# Altium footprint library HSEC8-130-01-XX-DV-A-BL.PcbLib: 1 footprints
Each footprint in its own frame and in the unit in brackets; x right, y up, seen from the top. Pads: shape width x height; smd on the part's side, far side on the other; paste and mask are expansions set on the pad; w line width, h text height; cw(c..) or ccw(c..) is an arc to the next point about the centre after c.
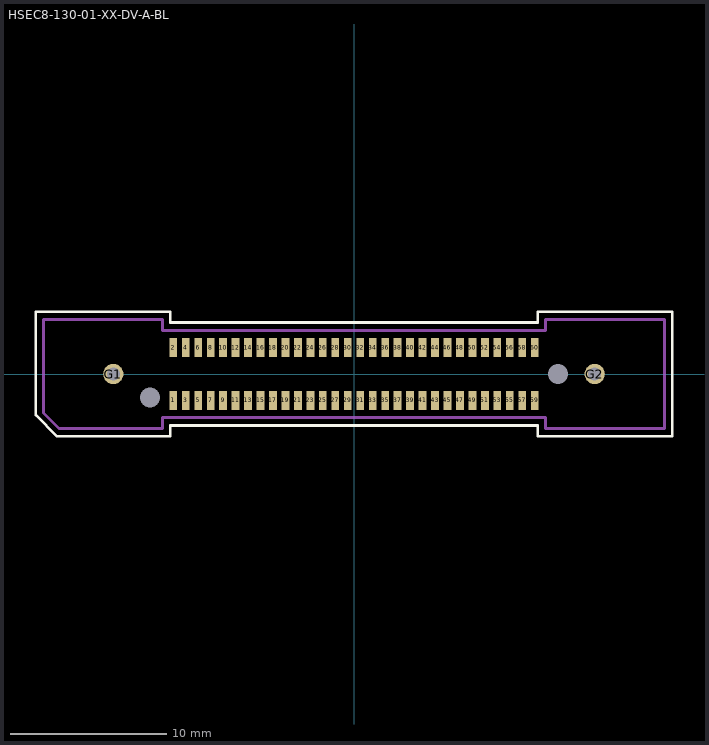
[diagram p0: the footprint, top view; thin cyan lines are the x and y axes]

## HSEC8-130-01-XX-DV-A-BL [mm]
pads (64):
  rect 0.5x1.2 smd mask+0.05: 1(-11.6,-1.7) 2(-11.6,1.7) 3(-10.8,-1.7) 4(-10.8,1.7) 5(-10,-1.7) 6(-10,1.7) 7(-9.2,-1.7) 8(-9.2,1.7) 9(-8.4,-1.7) 10(-8.4,1.7) 11(-7.6,-1.7) 12(-7.6,1.7) 13(-6.8,-1.7) 14(-6.8,1.7) 15(-6,-1.7) 16(-6,1.7) 17(-5.2,-1.7) 18(-5.2,1.7) 19(-4.4,-1.7) 20(-4.4,1.7) 21(-3.6,-1.7) 22(-3.6,1.7) 23(-2.8,-1.7) 24(-2.8,1.7) 25(-2,-1.7) 26(-2,1.7) 27(-1.2,-1.7) 28(-1.2,1.7) 29(-0.4,-1.7) 30(-0.4,1.7) 31(0.4,-1.7) 32(0.4,1.7) 33(1.2,-1.7) 34(1.2,1.7) 35(2,-1.7) 36(2,1.7) 37(2.8,-1.7) 38(2.8,1.7) 39(3.6,-1.7) 40(3.6,1.7) 41(4.4,-1.7) 42(4.4,1.7) 43(5.2,-1.7) 44(5.2,1.7) 45(6,-1.7) 46(6,1.7) 47(6.8,-1.7) 48(6.8,1.7) 49(7.6,-1.7) 50(7.6,1.7) 51(8.4,-1.7) 52(8.4,1.7) 53(9.2,-1.7) 54(9.2,1.7) 55(10,-1.7) 56(10,1.7) 57(10.8,-1.7) 58(10.8,1.7) 59(11.6,-1.7) 60(11.6,1.7)
  round 1.3 hole 0.84 mask+0.075: G1(-15.45,0) G2(15.45,0)
  round 0 hole 1.27 unplated: MH1(-13.1,-1.5) MH2(13.1,0)
Top Overlay:
  lines w0.178: -20.425,-2.631 -20.425,4 -11.8,4 -11.8,3.3 11.8,3.3 11.8,4 20.425,4 20.425,-4 11.8,-4 11.8,-3.3 -11.8,-3.3 -11.8,-4 -19.056,-4 -20.425,-2.631
Top Paste:
  region: 16.731,0 16.687,0.332 16.559,0.64 16.356,0.906 16.09,1.109 15.782,1.237 15.45,1.281 15.118,1.237 14.81,1.109 14.544,0.906 14.341,0.64 14.213,0.332 14.169,0 14.213,-0.332 14.341,-0.64 14.544,-0.906 14.81,-1.109 15.118,-1.237 15.45,-1.281 15.782,-1.237 16.09,-1.109 16.356,-0.906 16.559,-0.64 16.687,-0.332
  region: -14.169,0 -14.213,0.332 -14.341,0.64 -14.544,0.906 -14.81,1.109 -15.118,1.237 -15.45,1.281 -15.782,1.237 -16.09,1.109 -16.356,0.906 -16.559,0.64 -16.687,0.332 -16.731,0 -16.687,-0.332 -16.559,-0.64 -16.356,-0.906 -16.09,-1.109 -15.782,-1.237 -15.45,-1.281 -15.118,-1.237 -14.81,-1.109 -14.544,-0.906 -14.341,-0.64 -14.213,-0.332
Mechanical 13:
  lines w0.178: -19.925,-2.5 -18.925,-3.5 -12.3,-3.5 -12.3,-2.8 12.3,-2.8 12.3,-3.5 19.925,-3.5 19.925,3.5 12.3,3.5 12.3,2.8 -12.3,2.8 -12.3,3.5 -19.925,3.5 -19.925,-2.5
3D body "HSEC8-130-01-L-DV-A-BL.stp": height 12.2, standoff -1.5, extent -19.925,-3.5 19.925,3.5